# Altium footprint library SS8050-G.PcbLib: 3 footprints
Each footprint in its own frame and in the unit in brackets; x right, y up, seen from the top. Pads: shape width x height; smd on the part's side, far side on the other; paste and mask are expansions set on the pad; w line width, h text height; cw(c..) or ccw(c..) is an arc to the next point about the centre after c.
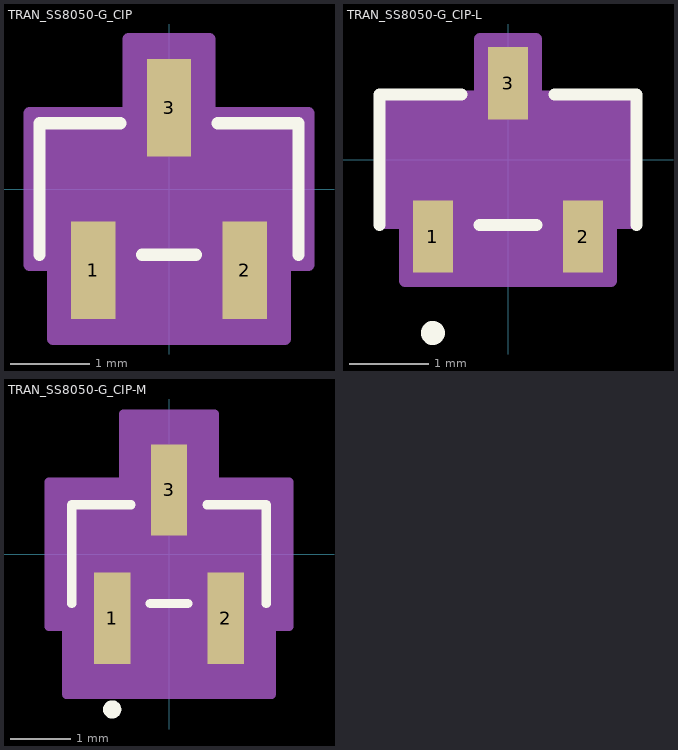
[diagram p0: the footprints below, top view; thin cyan lines are the x and y axes]

## TRAN_SS8050-G_CIP [mil]
pads (3):
  rect 22x48 smd paste+0 mask+0: 1(-37.4,-40.2) 2(37.4,-40.2) 3(0,40.2)
Top Overlay:
  lines w6: -64,-32.5 -64,32.5 -24.1,32.5 ; -13.3,-32.5 13.3,-32.5 ; 24.1,32.5 64,32.5 64,-32.5
Mechanical 13:
  circle w0: c-37.4,-17.5 r0
  lines w1: -59,-27.5 59,-27.5 59,27.5 -59,27.5 -59,-27.5 ; -47.4,-50.2 -47.4,-27.5 -27.4,-27.5 -27.4,-50.2 -47.4,-50.2 ; -10,27.5 10,27.5 10,50.2 -10,50.2 -10,27.5 ; 27.4,-50.2 27.4,-27.5 47.4,-27.5 47.4,-50.2 27.4,-50.2
Mechanical 15:
  region: -69,-37.5 -69,37.5 -20,37.5 -20,74.2 20,74.2 20,37.5 69,37.5 69,-37.5 57.4,-37.5 57.4,-74.2 -57.4,-74.2 -57.4,-37.5
  lines w6: -69,-37.5 -69,37.5 -20,37.5 -20,74.2 20,74.2 20,37.5 69,37.5 69,-37.5 57.4,-37.5 57.4,-74.2 -57.4,-74.2 -57.4,-37.5 -69,-37.5
3D body "TRAN_SS8050-G_CIP.step": height 41.1, standoff 0, extent -59.02,-50.2 59.02,50.2

## TRAN_SS8050-G_CIP-L [mil]
pads (3):
  rect 20x36 smd paste+0 mask+0: 1(-37.4,-38.2) 2(37.4,-38.2) 3(0,38.2)
Top Overlay:
  circle w6: c-37.4,-86.2 r3
  lines w6: -64,-32.5 -64,32.5 -23.1,32.5 ; -14.3,-32.5 14.3,-32.5 ; 23.1,32.5 64,32.5 64,-32.5
Mechanical 13:
  circle w0: c-37.4,-17.5 r3
  lines w1: -59,-27.5 59,-27.5 59,27.5 -59,27.5 -59,-27.5 ; -47.4,-50.2 -47.4,-27.5 -27.4,-27.5 -27.4,-50.2 -47.4,-50.2 ; -10,27.5 10,27.5 10,50.2 -10,50.2 -10,27.5 ; 27.4,-50.2 27.4,-27.5 47.4,-27.5 47.4,-50.2 27.4,-50.2
Mechanical 15:
  region: -63,-31.5 -63,31.5 -14,31.5 -14,60.2 14,60.2 14,31.5 63,31.5 63,-31.5 51.4,-31.5 51.4,-60.2 -51.4,-60.2 -51.4,-31.5
  lines w6: -63,-31.5 -63,31.5 -14,31.5 -14,60.2 14,60.2 14,31.5 63,31.5 63,-31.5 51.4,-31.5 51.4,-60.2 -51.4,-60.2 -51.4,-31.5 -63,-31.5
3D body "TRAN_SS8050-G_CIP.step": height 41.1, standoff 0, extent -59.02,-50.2 59.02,50.2

## TRAN_SS8050-G_CIP-M [mil]
pads (3):
  rect 24x60 smd paste+0 mask+0: 1(-37.4,-42.2) 2(37.4,-42.2) 3(0,42.2)
Top Overlay:
  circle w6: c-37.4,-102.2 r3
  lines w6: -64,-32.5 -64,32.5 -25.1,32.5 ; -12.3,-32.5 12.3,-32.5 ; 25.1,32.5 64,32.5 64,-32.5
Mechanical 13:
  circle w0: c-37.4,-17.5 r3
  lines w1: -59,-27.5 59,-27.5 59,27.5 -59,27.5 -59,-27.5 ; -47.4,-50.2 -47.4,-27.5 -27.4,-27.5 -27.4,-50.2 -47.4,-50.2 ; -10,27.5 10,27.5 10,50.2 -10,50.2 -10,27.5 ; 27.4,-50.2 27.4,-27.5 47.4,-27.5 47.4,-50.2 27.4,-50.2
Mechanical 15:
  region: -79,-47.5 -79,47.5 -30,47.5 -30,92.2 30,92.2 30,47.5 79,47.5 79,-47.5 67.4,-47.5 67.4,-92.2 -67.4,-92.2 -67.4,-47.5
  lines w6: -79,-47.5 -79,47.5 -30,47.5 -30,92.2 30,92.2 30,47.5 79,47.5 79,-47.5 67.4,-47.5 67.4,-92.2 -67.4,-92.2 -67.4,-47.5 -79,-47.5
3D body "TRAN_SS8050-G_CIP.step": height 41.1, standoff 0, extent -59.02,-50.2 59.02,50.2